# Altium integrated library TI Amplifiers and Linear Difference Amplifier.IntLib: 154 symbols (part 3 of 5)
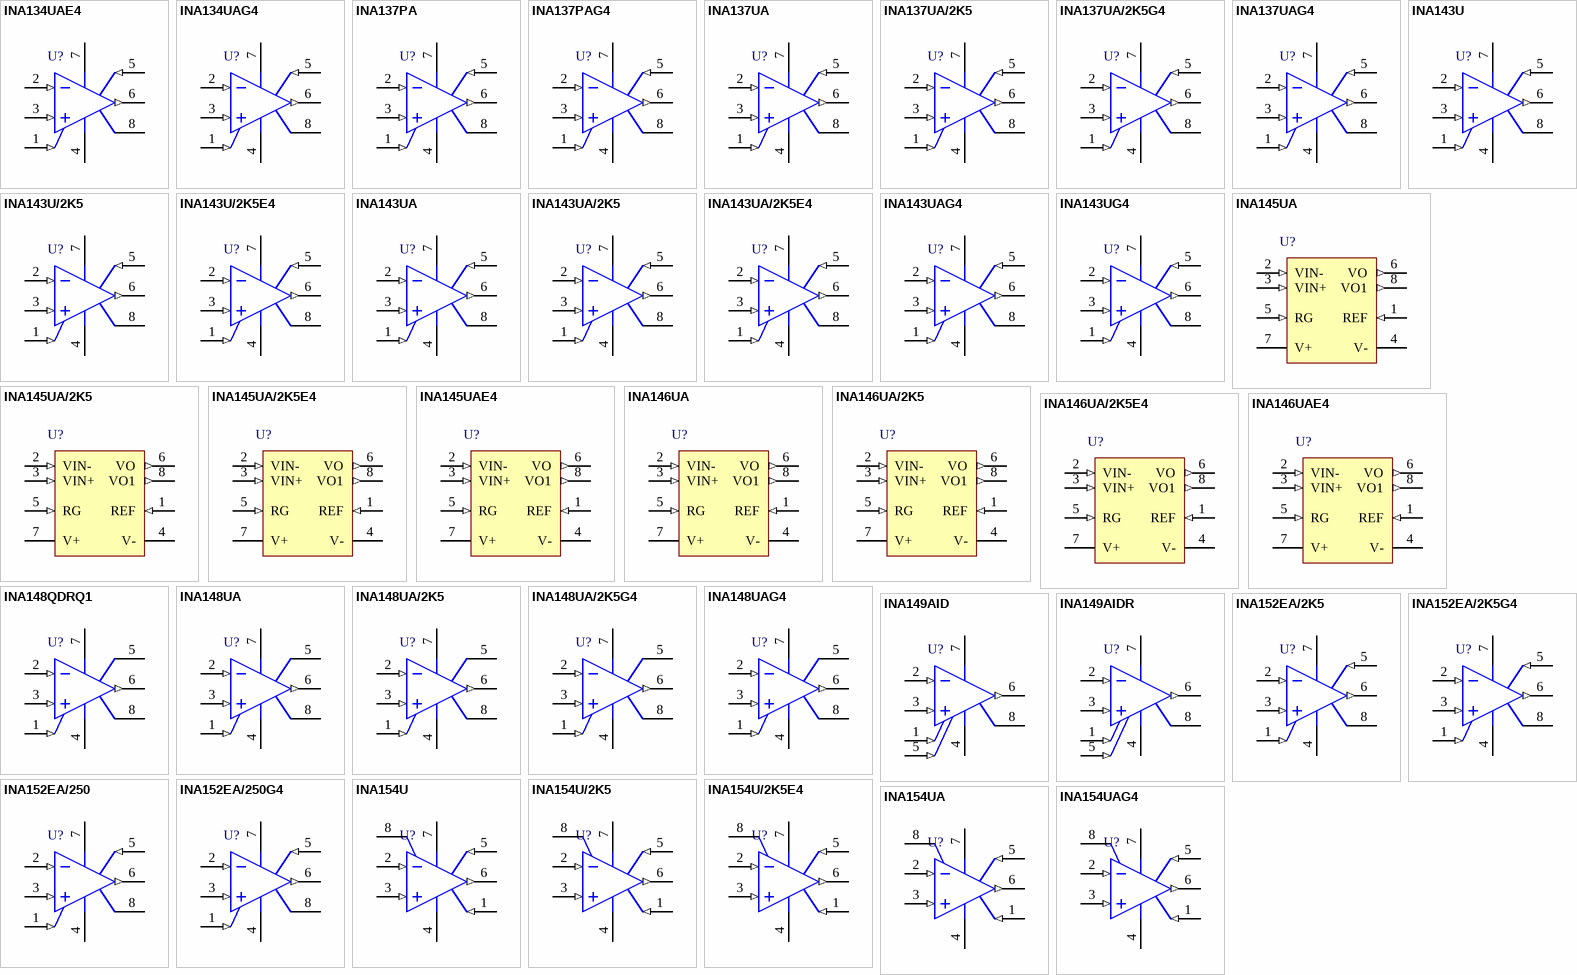
[diagram p7: symbols INA134UAE4 to INA154UAG4]

## INA148UA/2K5G4
designator U?
+/- 200 V Common-Mode Voltage Difference Amplifier, -40 to 85 degC, 8-pin SOIC (D8), Green (RoHS & no Sb/Br); Manufacturer: Texas Instruments; PartNumber: INA148UA/2K5G4; CMRR(Min)(dB): 70; Gain(V/V): 1; Input Offset (+/-)(Max)(uV): 5000; Vs(Max)(V): 36; Vs(Min)(V): 2.7; DatasheetVersion: SBOS123; PackageVersion: 4040047-3/M, 06/2011; PackageReference: D8; PackageDescription: 8-Pin Plastic Small Outline, Body 4.9 x 3.9 mm, Pitch 1.27 mm; Supplier 1: Digi-Key; Supplier Part Number 1: INA148UA/2K5G4-ND; Supplier 2: Newark; Supplier Part Number 2: 81K2079; Supplier 3: Mouser; Supplier Part Number 3: 595-INA148UA/2K5G4; Eco-Plan: Green (RoHS & no Sb/Br); Number of Channels: 1; Slew Rate(Typ)(V/us): 1; SubFamily: Difference Amplifier; Mounting Technology: Surface Mount; Code_JEDEC: MS-012; ComponentLink1Description: Manufacturer URL; ComponentLink1URL: http://www.ti.com/; ComponentLink2Description: Datasheet; ComponentLink2URL: http://www.ti.com/general/docs/lit/getliterature.tsp?genericPartNumber=INA148&fileType=pdf; ComponentLink3Description: Package Specification; ComponentLink3URL: http://www.ti.com/litv/pdf/msoi002j
footprint TI-D8_N (SOIC, 8-Leads, Body 5x4mm, Pitch 1.27mm, IPC Medium Density)
footprint TI-D8_L (SOIC, 8-Leads, Body 5x4mm, Pitch 1.27mm, IPC High Density)
footprint TI-D8_M (SOIC, 8-Leads, Body 5x4mm, Pitch 1.27mm, IPC Low Density)
pins: 1 REF (in), 2 IN- (in), 3 IN+ (in), 4 V- (power), 5 NC, 6 OUT (out), 7 V+ (power), 8 NC

## INA148UAG4
designator U?
+/- 200 V Common-Mode Voltage Difference Amplifier, -40 to 85 degC, 8-pin SOIC (D8), Green (RoHS & no Sb/Br); Manufacturer: Texas Instruments; PartNumber: INA148UAG4; CMRR(Min)(dB): 70; Gain(V/V): 1; Input Offset (+/-)(Max)(uV): 5000; Vs(Max)(V): 36; Vs(Min)(V): 2.7; DatasheetVersion: SBOS123; PackageVersion: 4040047-3/M, 06/2011; PackageReference: D8; PackageDescription: 8-Pin Plastic Small Outline, Body 4.9 x 3.9 mm, Pitch 1.27 mm; Supplier 1: Digi-Key; Supplier Part Number 1: INA148UAG4-ND; Supplier 2: Farnell; Supplier Part Number 2: 1206902; Supplier 3: Newark; Supplier Part Number 3: 97K1927; Supplier 4: Newark; Supplier Part Number 4: 81K2080; Supplier 5: Mouser; Supplier Part Number 5: 595-INA148UAG4; Eco-Plan: Green (RoHS & no Sb/Br); Number of Channels: 1; Slew Rate(Typ)(V/us): 1; SubFamily: Difference Amplifier; Mounting Technology: Surface Mount; Code_JEDEC: MS-012; ComponentLink1Description: Manufacturer URL; ComponentLink1URL: http://www.ti.com/; ComponentLink2Description: Datasheet; ComponentLink2URL: http://www.ti.com/general/docs/lit/getliterature.tsp?genericPartNumber=INA148&fileType=pdf; ComponentLink3Description: Package Specification; ComponentLink3URL: http://www.ti.com/litv/pdf/msoi002j
footprint TI-D8_N (SOIC, 8-Leads, Body 5x4mm, Pitch 1.27mm, IPC Medium Density)
footprint TI-D8_L (SOIC, 8-Leads, Body 5x4mm, Pitch 1.27mm, IPC High Density)
footprint TI-D8_M (SOIC, 8-Leads, Body 5x4mm, Pitch 1.27mm, IPC Low Density)
pins: 1 REF (in), 2 IN- (in), 3 IN+ (in), 4 V- (power), 5 NC, 6 OUT (out), 7 V+ (power), 8 NC

## INA149AID
designator U?
High Common Mode Voltage Difference Amplifier, -40 to 125 degC, 8-pin SOIC (D8), Green (RoHS & no Sb/Br); Manufacturer: Texas Instruments; PartNumber: INA149AID; CMRR(Min)(dB): 90; Gain(V/V): 1; Input Offset (+/-)(Max)(uV): 1100; Slew Rate(Typ)(V/us): 5; Vs(Max)(V): 36; Vs(Min)(V): 4; DatasheetVersion: SBOS579B; PackageVersion: 4040047-3/M, 06/2011; PackageReference: D8; PackageDescription: 8-Pin Plastic Small Outline, Body 4.9 x 3.9 mm, Pitch 1.27 mm; Supplier 1: Digi-Key; Supplier Part Number 1: 296-33286-5-ND; Supplier 2: Farnell; Supplier Part Number 2: 2082428; Supplier 3: Newark; Supplier Part Number 3: 76T6054; Supplier 4: Mouser; Supplier Part Number 4: 595-INA149AID; Eco-Plan: Green (RoHS & no Sb/Br); Number of Channels: 1; SubFamily: Difference Amplifier; Mounting Technology: Surface Mount; Code_JEDEC: MS-012; ComponentLink1Description: Manufacturer URL; ComponentLink1URL: http://www.ti.com/; ComponentLink2Description: Datasheet; ComponentLink2URL: http://www.ti.com/general/docs/lit/getliterature.tsp?genericPartNumber=INA149&fileType=pdf; ComponentLink3Description: Package Specification; ComponentLink3URL: http://www.ti.com/litv/pdf/msoi002j
footprint TI-D8_N (SOIC, 8-Leads, Body 5x4mm, Pitch 1.27mm, IPC Medium Density)
footprint TI-D8_L (SOIC, 8-Leads, Body 5x4mm, Pitch 1.27mm, IPC High Density)
footprint TI-D8_M (SOIC, 8-Leads, Body 5x4mm, Pitch 1.27mm, IPC Low Density)
pins: 1 REFB (in) "Reference input", 2 IN- (in) "Inverting input", 3 IN+ (in) "Noninverting input", 4 V- (power) "Negative power supply", 5 REFA (in) "Reference input", 6 VOUT (out) "Output", 7 V+ (power) "Positive power supply", 8 NC "No internal connection"

## INA149AIDR
designator U?
High Common Mode Voltage Difference Amplifier, -40 to 125 degC, 8-pin SOIC (D8), Green (RoHS & no Sb/Br); Manufacturer: Texas Instruments; PartNumber: INA149AIDR; CMRR(Min)(dB): 90; Gain(V/V): 1; Input Offset (+/-)(Max)(uV): 1100; Slew Rate(Typ)(V/us): 5; Vs(Max)(V): 36; Vs(Min)(V): 4; DatasheetVersion: SBOS579B; PackageVersion: 4040047-3/M, 06/2011; PackageReference: D8; PackageDescription: 8-Pin Plastic Small Outline, Body 4.9 x 3.9 mm, Pitch 1.27 mm; Supplier 1: Digi-Key; Supplier Part Number 1: 296-30028-2-ND; Supplier 2: Digi-Key; Supplier Part Number 2: 296-30028-1-ND; Supplier 3: Digi-Key; Supplier Part Number 3: 296-30028-6-ND; Supplier 4: Newark; Supplier Part Number 4: 76T6055; Supplier 5: Mouser; Supplier Part Number 5: 595-INA149AIDR; Eco-Plan: Green (RoHS & no Sb/Br); Number of Channels: 1; SubFamily: Difference Amplifier; Mounting Technology: Surface Mount; Code_JEDEC: MS-012; ComponentLink1Description: Manufacturer URL; ComponentLink1URL: http://www.ti.com/; ComponentLink2Description: Datasheet; ComponentLink2URL: http://www.ti.com/general/docs/lit/getliterature.tsp?genericPartNumber=INA149&fileType=pdf; ComponentLink3Description: Package Specification; ComponentLink3URL: http://www.ti.com/litv/pdf/msoi002j
footprint TI-D8_N (SOIC, 8-Leads, Body 5x4mm, Pitch 1.27mm, IPC Medium Density)
footprint TI-D8_L (SOIC, 8-Leads, Body 5x4mm, Pitch 1.27mm, IPC High Density)
footprint TI-D8_M (SOIC, 8-Leads, Body 5x4mm, Pitch 1.27mm, IPC Low Density)
pins: 1 REFB (in) "Reference input", 2 IN- (in) "Inverting input", 3 IN+ (in) "Noninverting input", 4 V- (power) "Negative power supply", 5 REFA (in) "Reference input", 6 VOUT (out) "Output", 7 V+ (power) "Positive power supply", 8 NC "No internal connection"

## INA152EA/2K5
designator U?
Single-Supply Difference Amplifier, -40 to 85 degC, 8-pin SOP (DGK8), Green (RoHS & no Sb/Br); Manufacturer: Texas Instruments; PartNumber: INA152EA/2K5; CMRR(Min)(dB): 80; Gain(V/V): 1; Input Offset (+/-)(Max)(uV): 1500; Slew Rate(Typ)(V/us): 0.4; Vs(Max)(V): 20; Vs(Min)(V): 2.7; DatasheetVersion: SBOS184; PackageVersion: 4073329/E, 05/2006; PackageReference: DGK8; PackageDescription: 8-Pin Thin Small Outline, Body 3 x 3 mm, Pitch 0.65 mm; Supplier 1: Digi-Key; Supplier Part Number 1: INA152EA/2K5TR-ND; Supplier 2: Digi-Key; Supplier Part Number 2: INA152EA/2K5CT-ND; Supplier 3: Digi-Key; Supplier Part Number 3: INA152EA/2K5DKR-ND; Supplier 4: Newark; Supplier Part Number 4: 74C9809; Supplier 5: Mouser; Supplier Part Number 5: 595-INA152EA/2K5; Eco-Plan: Green (RoHS & no Sb/Br); SubFamily: Difference Amplifier; Mounting Technology: Surface Mount; Code_JEDEC: MO-187; ComponentLink1Description: Manufacturer URL; ComponentLink1URL: http://www.ti.com/; ComponentLink2Description: Datasheet; ComponentLink2URL: http://www.ti.com/general/docs/lit/getliterature.tsp?genericPartNumber=INA152&fileType=pdf; ComponentLink3Description: Package Specification; ComponentLink3URL: http://www.ti.com/litv/pdf/mpds028d
footprint TI-DGK8_N (SOP, 8-Leads, Body 3.1x3.1mm, Pitch 0.65mm, IPC Medium Density)
footprint TI-DGK8_L (SOP, 8-Leads, Body 3.1x3.1mm, Pitch 0.65mm, IPC High Density)
footprint TI-DGK8_M (SOP, 8-Leads, Body 3.1x3.1mm, Pitch 0.65mm, IPC Low Density)
pins: 1 REF (in), 2 VIN- (in), 3 VIN+ (in), 4 V- (power), 5 SENSE (in), 6 VO (out), 7 V+ (power), 8 NC

## INA152EA/2K5G4
designator U?
Single-Supply Difference Amplifier, -40 to 85 degC, 8-pin SOP (DGK8), Green (RoHS & no Sb/Br); Manufacturer: Texas Instruments; PartNumber: INA152EA/2K5G4; CMRR(Min)(dB): 80; Gain(V/V): 1; Input Offset (+/-)(Max)(uV): 1500; Slew Rate(Typ)(V/us): 0.4; Vs(Max)(V): 20; Vs(Min)(V): 2.7; DatasheetVersion: SBOS184; PackageVersion: 4073329/E, 05/2006; PackageReference: DGK8; PackageDescription: 8-Pin Thin Small Outline, Body 3 x 3 mm, Pitch 0.65 mm; Supplier 1: Digi-Key; Supplier Part Number 1: INA152EA/2K5G4-ND; Supplier 2: Mouser; Supplier Part Number 2: 595-INA152EA/2K5G4; Eco-Plan: Green (RoHS & no Sb/Br); SubFamily: Difference Amplifier; Mounting Technology: Surface Mount; Code_JEDEC: MO-187; ComponentLink1Description: Manufacturer URL; ComponentLink1URL: http://www.ti.com/; ComponentLink2Description: Datasheet; ComponentLink2URL: http://www.ti.com/general/docs/lit/getliterature.tsp?genericPartNumber=INA152&fileType=pdf; ComponentLink3Description: Package Specification; ComponentLink3URL: http://www.ti.com/litv/pdf/mpds028d
footprint TI-DGK8_N (SOP, 8-Leads, Body 3.1x3.1mm, Pitch 0.65mm, IPC Medium Density)
footprint TI-DGK8_L (SOP, 8-Leads, Body 3.1x3.1mm, Pitch 0.65mm, IPC High Density)
footprint TI-DGK8_M (SOP, 8-Leads, Body 3.1x3.1mm, Pitch 0.65mm, IPC Low Density)
pins: 1 REF (in), 2 VIN- (in), 3 VIN+ (in), 4 V- (power), 5 SENSE (in), 6 VO (out), 7 V+ (power), 8 NC

## INA152EA/250
designator U?
Single-Supply Difference Amplifier, -40 to 85 degC, 8-pin SOP (DGK8), Green (RoHS & no Sb/Br); Manufacturer: Texas Instruments; PartNumber: INA152EA/250; CMRR(Min)(dB): 80; Gain(V/V): 1; Input Offset (+/-)(Max)(uV): 1500; Slew Rate(Typ)(V/us): 0.4; Vs(Max)(V): 20; Vs(Min)(V): 2.7; DatasheetVersion: SBOS184; PackageVersion: 4073329/E, 05/2006; PackageReference: DGK8; PackageDescription: 8-Pin Thin Small Outline, Body 3 x 3 mm, Pitch 0.65 mm; Supplier 1: Digi-Key; Supplier Part Number 1: 296-27986-2-ND; Supplier 2: Digi-Key; Supplier Part Number 2: 296-27986-1-ND; Supplier 3: Digi-Key; Supplier Part Number 3: 296-27986-6-ND; Supplier 4: Farnell; Supplier Part Number 4: 1206903; Supplier 5: Farnell; Supplier Part Number 5: 1206903RL; Supplier 6: Newark; Supplier Part Number 6: 97K1928; Supplier 7: Mouser; Supplier Part Number 7: 595-INA152EA/250; Eco-Plan: Green (RoHS & no Sb/Br); SubFamily: Difference Amplifier; Mounting Technology: Surface Mount; Code_JEDEC: MO-187; ComponentLink1Description: Manufacturer URL; ComponentLink1URL: http://www.ti.com/; ComponentLink2Description: Datasheet; ComponentLink2URL: http://www.ti.com/general/docs/lit/getliterature.tsp?genericPartNumber=INA152&fileType=pdf; ComponentLink3Description: Package Specification; ComponentLink3URL: http://www.ti.com/litv/pdf/mpds028d
footprint TI-DGK8_N (SOP, 8-Leads, Body 3.1x3.1mm, Pitch 0.65mm, IPC Medium Density)
footprint TI-DGK8_L (SOP, 8-Leads, Body 3.1x3.1mm, Pitch 0.65mm, IPC High Density)
footprint TI-DGK8_M (SOP, 8-Leads, Body 3.1x3.1mm, Pitch 0.65mm, IPC Low Density)
pins: 1 REF (in), 2 VIN- (in), 3 VIN+ (in), 4 V- (power), 5 SENSE (in), 6 VO (out), 7 V+ (power), 8 NC

## INA152EA/250G4
designator U?
Single-Supply Difference Amplifier, -40 to 85 degC, 8-pin SOP (DGK8), Green (RoHS & no Sb/Br); Manufacturer: Texas Instruments; PartNumber: INA152EA/250G4; CMRR(Min)(dB): 80; Gain(V/V): 1; Input Offset (+/-)(Max)(uV): 1500; Slew Rate(Typ)(V/us): 0.4; Vs(Max)(V): 20; Vs(Min)(V): 2.7; DatasheetVersion: SBOS184; PackageVersion: 4073329/E, 05/2006; PackageReference: DGK8; PackageDescription: 8-Pin Thin Small Outline, Body 3 x 3 mm, Pitch 0.65 mm; Supplier 1: Digi-Key; Supplier Part Number 1: INA152EA/250G4-ND; Supplier 2: Newark; Supplier Part Number 2: 28M6087; Supplier 3: Mouser; Supplier Part Number 3: 595-INA152EA/250G4; Eco-Plan: Green (RoHS & no Sb/Br); SubFamily: Difference Amplifier; Mounting Technology: Surface Mount; Code_JEDEC: MO-187; ComponentLink1Description: Manufacturer URL; ComponentLink1URL: http://www.ti.com/; ComponentLink2Description: Datasheet; ComponentLink2URL: http://www.ti.com/general/docs/lit/getliterature.tsp?genericPartNumber=INA152&fileType=pdf; ComponentLink3Description: Package Specification; ComponentLink3URL: http://www.ti.com/litv/pdf/mpds028d
footprint TI-DGK8_N (SOP, 8-Leads, Body 3.1x3.1mm, Pitch 0.65mm, IPC Medium Density)
footprint TI-DGK8_L (SOP, 8-Leads, Body 3.1x3.1mm, Pitch 0.65mm, IPC High Density)
footprint TI-DGK8_M (SOP, 8-Leads, Body 3.1x3.1mm, Pitch 0.65mm, IPC Low Density)
pins: 1 REF (in), 2 VIN- (in), 3 VIN+ (in), 4 V- (power), 5 SENSE (in), 6 VO (out), 7 V+ (power), 8 NC

## INA154U
designator U?
High-Speed, Precision Difference Amplifier (G = 1), -40 to 85 degC, 8-pin SOIC (D8), Green (RoHS & no Sb/Br); Manufacturer: Texas Instruments; PartNumber: INA154U; CMRR(Min)(dB): 80; Gain(V/V): 1; Input Offset (+/-)(Max)(uV): 750; Slew Rate(Typ)(V/us): 14; Vs(Max)(V): 36; Vs(Min)(V): 8; DatasheetVersion: SBOS104; PackageVersion: 4040047-3/M, 06/2011; PackageReference: D8; PackageDescription: 8-Pin Plastic Small Outline, Body 4.9 x 3.9 mm, Pitch 1.27 mm; Supplier 1: Digi-Key; Supplier Part Number 1: INA154U-ND; Supplier 2: Farnell; Supplier Part Number 2: 2323251; Supplier 3: Newark; Supplier Part Number 3: 35C1741; Supplier 4: Mouser; Supplier Part Number 4: 595-INA154U; Eco-Plan: Green (RoHS & no Sb/Br); Number of Channels: 1; SubFamily: Difference Amplifier; Mounting Technology: Surface Mount; Code_JEDEC: MS-012; ComponentLink1Description: Manufacturer URL; ComponentLink1URL: http://www.ti.com/; ComponentLink2Description: Datasheet; ComponentLink2URL: http://www.ti.com/general/docs/lit/getliterature.tsp?genericPartNumber=INA154&fileType=pdf; ComponentLink3Description: Package Specification; ComponentLink3URL: http://www.ti.com/litv/pdf/msoi002j
footprint TI-D8_N (SOIC, 8-Leads, Body 5x4mm, Pitch 1.27mm, IPC Medium Density)
footprint TI-D8_L (SOIC, 8-Leads, Body 5x4mm, Pitch 1.27mm, IPC High Density)
footprint TI-D8_M (SOIC, 8-Leads, Body 5x4mm, Pitch 1.27mm, IPC Low Density)
pins: 1 REF (in), 2 IN- (in), 3 IN+ (in), 4 V- (power), 5 SENSE (in), 6 OUT (out), 7 V+ (power), 8 NIC

## INA154U/2K5
designator U?
High-Speed, Precision Difference Amplifier (G = 1), -40 to 85 degC, 8-pin SOIC (D8), Green (RoHS & no Sb/Br); Manufacturer: Texas Instruments; PartNumber: INA154U/2K5; CMRR(Min)(dB): 80; Gain(V/V): 1; Input Offset (+/-)(Max)(uV): 750; Slew Rate(Typ)(V/us): 14; Vs(Max)(V): 36; Vs(Min)(V): 8; DatasheetVersion: SBOS104; PackageVersion: 4040047-3/M, 06/2011; PackageReference: D8; PackageDescription: 8-Pin Plastic Small Outline, Body 4.9 x 3.9 mm, Pitch 1.27 mm; Supplier 1: Digi-Key; Supplier Part Number 1: 296-31644-2-ND; Supplier 2: Digi-Key; Supplier Part Number 2: 296-31644-1-ND; Supplier 3: Digi-Key; Supplier Part Number 3: 296-31644-6-ND; Supplier 4: Newark; Supplier Part Number 4: 74C9811; Supplier 5: Mouser; Supplier Part Number 5: 595-INA154U/2K5; Eco-Plan: Green (RoHS & no Sb/Br); Number of Channels: 1; SubFamily: Difference Amplifier; Mounting Technology: Surface Mount; Code_JEDEC: MS-012; ComponentLink1Description: Manufacturer URL; ComponentLink1URL: http://www.ti.com/; ComponentLink2Description: Datasheet; ComponentLink2URL: http://www.ti.com/general/docs/lit/getliterature.tsp?genericPartNumber=INA154&fileType=pdf; ComponentLink3Description: Package Specification; ComponentLink3URL: http://www.ti.com/litv/pdf/msoi002j
footprint TI-D8_N (SOIC, 8-Leads, Body 5x4mm, Pitch 1.27mm, IPC Medium Density)
footprint TI-D8_L (SOIC, 8-Leads, Body 5x4mm, Pitch 1.27mm, IPC High Density)
footprint TI-D8_M (SOIC, 8-Leads, Body 5x4mm, Pitch 1.27mm, IPC Low Density)
pins: 1 REF (in), 2 IN- (in), 3 IN+ (in), 4 V- (power), 5 SENSE (in), 6 OUT (out), 7 V+ (power), 8 NIC

## INA154U/2K5E4
designator U?
High-Speed, Precision Difference Amplifier (G = 1), -40 to 85 degC, 8-pin SOIC (D8), Green (RoHS & no Sb/Br); Manufacturer: Texas Instruments; PartNumber: INA154U/2K5E4; CMRR(Min)(dB): 80; Gain(V/V): 1; Input Offset (+/-)(Max)(uV): 750; Slew Rate(Typ)(V/us): 14; Vs(Max)(V): 36; Vs(Min)(V): 8; DatasheetVersion: SBOS104; PackageVersion: 4040047-3/M, 06/2011; PackageReference: D8; PackageDescription: 8-Pin Plastic Small Outline, Body 4.9 x 3.9 mm, Pitch 1.27 mm; Supplier 1: Digi-Key; Supplier Part Number 1: INA154U/2K5E4-ND; Supplier 2: Mouser; Supplier Part Number 2: 595-INA154U/2K5E4; Eco-Plan: Green (RoHS & no Sb/Br); Number of Channels: 1; SubFamily: Difference Amplifier; Mounting Technology: Surface Mount; Code_JEDEC: MS-012; ComponentLink1Description: Manufacturer URL; ComponentLink1URL: http://www.ti.com/; ComponentLink2Description: Datasheet; ComponentLink2URL: http://www.ti.com/general/docs/lit/getliterature.tsp?genericPartNumber=INA154&fileType=pdf; ComponentLink3Description: Package Specification; ComponentLink3URL: http://www.ti.com/litv/pdf/msoi002j
footprint TI-D8_N (SOIC, 8-Leads, Body 5x4mm, Pitch 1.27mm, IPC Medium Density)
footprint TI-D8_L (SOIC, 8-Leads, Body 5x4mm, Pitch 1.27mm, IPC High Density)
footprint TI-D8_M (SOIC, 8-Leads, Body 5x4mm, Pitch 1.27mm, IPC Low Density)
pins: 1 REF (in), 2 IN- (in), 3 IN+ (in), 4 V- (power), 5 SENSE (in), 6 OUT (out), 7 V+ (power), 8 NIC

## INA154UA
designator U?
High-Speed, Precision Difference Amplifier (G = 1), -40 to 85 degC, 8-pin SOIC (D8), Green (RoHS & no Sb/Br); Manufacturer: Texas Instruments; PartNumber: INA154UA; CMRR(Min)(dB): 74; Gain(V/V): 1; Input Offset (+/-)(Max)(uV): 1500; Slew Rate(Typ)(V/us): 14; Vs(Max)(V): 36; Vs(Min)(V): 8; DatasheetVersion: SBOS104; PackageVersion: 4040047-3/M, 06/2011; PackageReference: D8; PackageDescription: 8-Pin Plastic Small Outline, Body 4.9 x 3.9 mm, Pitch 1.27 mm; Supplier 1: Digi-Key; Supplier Part Number 1: INA154UA-ND; Supplier 2: Farnell; Supplier Part Number 2: 1459431; Supplier 3: Newark; Supplier Part Number 3: 61M6793; Supplier 4: Mouser; Supplier Part Number 4: 595-INA154UA; Eco-Plan: Green (RoHS & no Sb/Br); Number of Channels: 1; SubFamily: Difference Amplifier; Mounting Technology: Surface Mount; Code_JEDEC: MS-012; ComponentLink1Description: Manufacturer URL; ComponentLink1URL: http://www.ti.com/; ComponentLink2Description: Datasheet; ComponentLink2URL: http://www.ti.com/general/docs/lit/getliterature.tsp?genericPartNumber=INA154&fileType=pdf; ComponentLink3Description: Package Specification; ComponentLink3URL: http://www.ti.com/litv/pdf/msoi002j
footprint TI-D8_N (SOIC, 8-Leads, Body 5x4mm, Pitch 1.27mm, IPC Medium Density)
footprint TI-D8_L (SOIC, 8-Leads, Body 5x4mm, Pitch 1.27mm, IPC High Density)
footprint TI-D8_M (SOIC, 8-Leads, Body 5x4mm, Pitch 1.27mm, IPC Low Density)
pins: 1 REF (in), 2 IN- (in), 3 IN+ (in), 4 V- (power), 5 SENSE (in), 6 OUT (out), 7 V+ (power), 8 NIC

## INA154UAG4
designator U?
High-Speed, Precision Difference Amplifier (G = 1), -40 to 85 degC, 8-pin SOIC (D8), Green (RoHS & no Sb/Br); Manufacturer: Texas Instruments; PartNumber: INA154UAG4; CMRR(Min)(dB): 74; Gain(V/V): 1; Input Offset (+/-)(Max)(uV): 1500; Slew Rate(Typ)(V/us): 14; Vs(Max)(V): 36; Vs(Min)(V): 8; DatasheetVersion: SBOS104; PackageVersion: 4040047-3/M, 06/2011; PackageReference: D8; PackageDescription: 8-Pin Plastic Small Outline, Body 4.9 x 3.9 mm, Pitch 1.27 mm; Supplier 1: Digi-Key; Supplier Part Number 1: INA154UAG4-ND; Supplier 2: Mouser; Supplier Part Number 2: 595-INA154UAG4; Eco-Plan: Green (RoHS & no Sb/Br); Number of Channels: 1; SubFamily: Difference Amplifier; Mounting Technology: Surface Mount; Code_JEDEC: MS-012; ComponentLink1Description: Manufacturer URL; ComponentLink1URL: http://www.ti.com/; ComponentLink2Description: Datasheet; ComponentLink2URL: http://www.ti.com/general/docs/lit/getliterature.tsp?genericPartNumber=INA154&fileType=pdf; ComponentLink3Description: Package Specification; ComponentLink3URL: http://www.ti.com/litv/pdf/msoi002j
footprint TI-D8_N (SOIC, 8-Leads, Body 5x4mm, Pitch 1.27mm, IPC Medium Density)
footprint TI-D8_L (SOIC, 8-Leads, Body 5x4mm, Pitch 1.27mm, IPC High Density)
footprint TI-D8_M (SOIC, 8-Leads, Body 5x4mm, Pitch 1.27mm, IPC Low Density)
pins: 1 REF (in), 2 IN- (in), 3 IN+ (in), 4 V- (power), 5 SENSE (in), 6 OUT (out), 7 V+ (power), 8 NIC

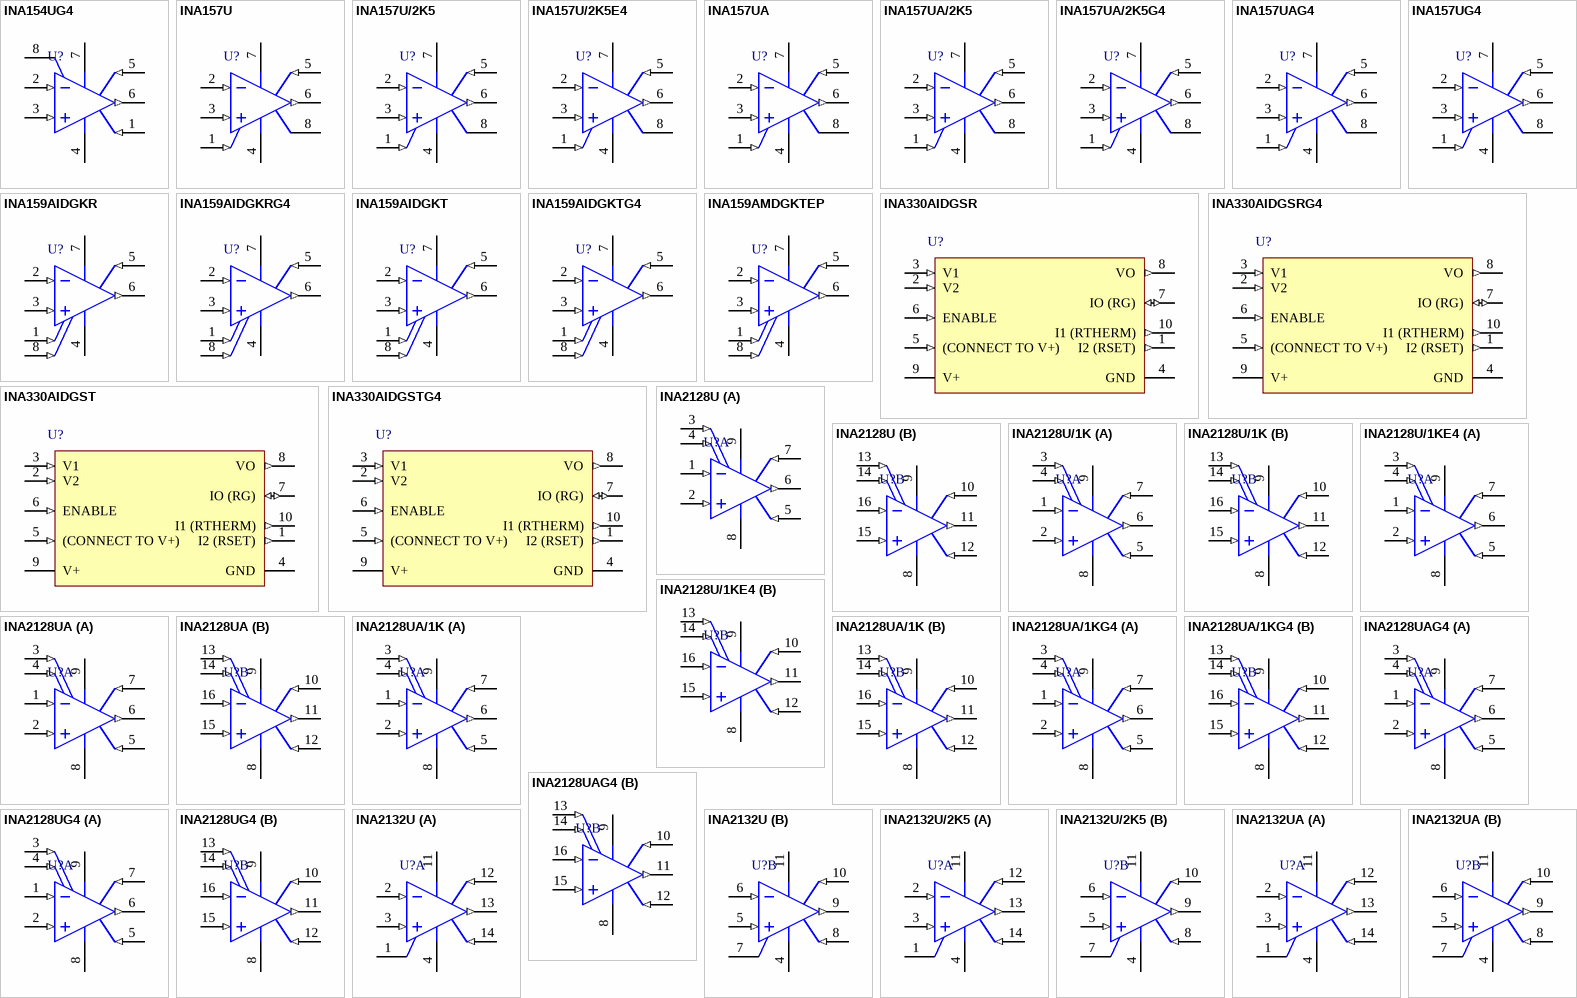
[diagram p2: symbols INA154UG4 to INA2132UA]

## INA154UG4
designator U?
High-Speed, Precision Difference Amplifier (G = 1), -40 to 85 degC, 8-pin SOIC (D8), Green (RoHS & no Sb/Br); Manufacturer: Texas Instruments; PartNumber: INA154UG4; CMRR(Min)(dB): 80; Gain(V/V): 1; Input Offset (+/-)(Max)(uV): 750; Slew Rate(Typ)(V/us): 14; Vs(Max)(V): 36; Vs(Min)(V): 8; DatasheetVersion: SBOS104; PackageVersion: 4040047-3/M, 06/2011; PackageReference: D8; PackageDescription: 8-Pin Plastic Small Outline, Body 4.9 x 3.9 mm, Pitch 1.27 mm; Supplier 1: Digi-Key; Supplier Part Number 1: INA154UG4-ND; Supplier 2: Mouser; Supplier Part Number 2: 595-INA154UG4; Eco-Plan: Green (RoHS & no Sb/Br); Number of Channels: 1; SubFamily: Difference Amplifier; Mounting Technology: Surface Mount; Code_JEDEC: MS-012; ComponentLink1Description: Manufacturer URL; ComponentLink1URL: http://www.ti.com/; ComponentLink2Description: Datasheet; ComponentLink2URL: http://www.ti.com/general/docs/lit/getliterature.tsp?genericPartNumber=INA154&fileType=pdf; ComponentLink3Description: Package Specification; ComponentLink3URL: http://www.ti.com/litv/pdf/msoi002j
footprint TI-D8_N (SOIC, 8-Leads, Body 5x4mm, Pitch 1.27mm, IPC Medium Density)
footprint TI-D8_L (SOIC, 8-Leads, Body 5x4mm, Pitch 1.27mm, IPC High Density)
footprint TI-D8_M (SOIC, 8-Leads, Body 5x4mm, Pitch 1.27mm, IPC Low Density)
pins: 1 REF (in), 2 IN- (in), 3 IN+ (in), 4 V- (power), 5 SENSE (in), 6 OUT (out), 7 V+ (power), 8 NIC

## INA157U
designator U?
High-Speed, Precision Difference Amplifier, -40 to 85 degC, 8-pin SOIC (D8), Green (RoHS & no Sb/Br); Manufacturer: Texas Instruments; PartNumber: INA157U; CMRR(Min)(dB): 86; Gain(V/V): 0.5, 2; Input Offset (+/-)(Max)(uV): 500; Number of Channels: 1; Slew Rate(Typ)(V/us): 14; Vs(Max)(V): 36; Vs(Min)(V): 8; DatasheetVersion: SBOS105; PackageVersion: 4040047-3/M, 06/2011; PackageReference: D8; PackageDescription: 8-Pin Plastic Small Outline, Body 4.9 x 3.9 mm, Pitch 1.27 mm; Supplier 1: Digi-Key; Supplier Part Number 1: INA157U-ND; Supplier 2: Newark; Supplier Part Number 2: 35C1742; Supplier 3: Mouser; Supplier Part Number 3: 595-INA157U; Eco-Plan: Green (RoHS & no Sb/Br); SubFamily: Difference Amplifier; Mounting Technology: Surface Mount; Code_JEDEC: MS-012; ComponentLink1Description: Manufacturer URL; ComponentLink1URL: http://www.ti.com/; ComponentLink2Description: Datasheet; ComponentLink2URL: http://www.ti.com/general/docs/lit/getliterature.tsp?genericPartNumber=INA157&fileType=pdf; ComponentLink3Description: Package Specification; ComponentLink3URL: http://www.ti.com/litv/pdf/msoi002j
footprint TI-D8_N (SOIC, 8-Leads, Body 5x4mm, Pitch 1.27mm, IPC Medium Density)
footprint TI-D8_L (SOIC, 8-Leads, Body 5x4mm, Pitch 1.27mm, IPC High Density)
footprint TI-D8_M (SOIC, 8-Leads, Body 5x4mm, Pitch 1.27mm, IPC Low Density)
pins: 1 REF (in), 2 IN- (in), 3 IN+ (in), 4 V- (power), 5 SENSE (in), 6 OUT (out), 7 V+ (power), 8 NC

## INA157U/2K5
designator U?
High-Speed, Precision Difference Amplifier, -40 to 85 degC, 8-pin SOIC (D8), Green (RoHS & no Sb/Br); Manufacturer: Texas Instruments; PartNumber: INA157U/2K5; CMRR(Min)(dB): 86; Gain(V/V): 0.5; Input Offset (+/-)(Max)(uV): 500; Number of Channels: 1; Slew Rate(Typ)(V/us): 14; Vs(Max)(V): 36; Vs(Min)(V): 8; DatasheetVersion: SBOS105; PackageVersion: 4040047-3/M, 06/2011; PackageReference: D8; PackageDescription: 8-Pin Plastic Small Outline, Body 4.9 x 3.9 mm, Pitch 1.27 mm; Supplier 1: Digi-Key; Supplier Part Number 1: INA157U/2K5-ND; Supplier 2: Newark; Supplier Part Number 2: 74C9823; Supplier 3: Mouser; Supplier Part Number 3: 595-INA157U/2K5; Eco-Plan: Green (RoHS & no Sb/Br); SubFamily: Difference Amplifier; Mounting Technology: Surface Mount; Code_JEDEC: MS-012; ComponentLink1Description: Manufacturer URL; ComponentLink1URL: http://www.ti.com/; ComponentLink2Description: Datasheet; ComponentLink2URL: http://www.ti.com/general/docs/lit/getliterature.tsp?genericPartNumber=INA157&fileType=pdf; ComponentLink3Description: Package Specification; ComponentLink3URL: http://www.ti.com/litv/pdf/msoi002j
footprint TI-D8_N (SOIC, 8-Leads, Body 5x4mm, Pitch 1.27mm, IPC Medium Density)
footprint TI-D8_L (SOIC, 8-Leads, Body 5x4mm, Pitch 1.27mm, IPC High Density)
footprint TI-D8_M (SOIC, 8-Leads, Body 5x4mm, Pitch 1.27mm, IPC Low Density)
pins: 1 REF (in), 2 IN- (in), 3 IN+ (in), 4 V- (power), 5 SENSE (in), 6 OUT (out), 7 V+ (power), 8 NC

## INA157U/2K5E4
designator U?
High-Speed, Precision Difference Amplifier, -40 to 85 degC, 8-pin SOIC (D8), Green (RoHS & no Sb/Br); Manufacturer: Texas Instruments; PartNumber: INA157U/2K5E4; CMRR(Min)(dB): 86; Gain(V/V): 0.5; Input Offset (+/-)(Max)(uV): 500; Number of Channels: 1; Slew Rate(Typ)(V/us): 14; Vs(Max)(V): 36; Vs(Min)(V): 8; DatasheetVersion: SBOS105; PackageVersion: 4040047-3/M, 06/2011; PackageReference: D8; PackageDescription: 8-Pin Plastic Small Outline, Body 4.9 x 3.9 mm, Pitch 1.27 mm; Supplier 1: Digi-Key; Supplier Part Number 1: INA157U/2K5E4-ND; Supplier 2: Mouser; Supplier Part Number 2: 595-INA157U/2K5E4; Eco-Plan: Green (RoHS & no Sb/Br); SubFamily: Difference Amplifier; Mounting Technology: Surface Mount; Code_JEDEC: MS-012; ComponentLink1Description: Manufacturer URL; ComponentLink1URL: http://www.ti.com/; ComponentLink2Description: Datasheet; ComponentLink2URL: http://www.ti.com/general/docs/lit/getliterature.tsp?genericPartNumber=INA157&fileType=pdf; ComponentLink3Description: Package Specification; ComponentLink3URL: http://www.ti.com/litv/pdf/msoi002j
footprint TI-D8_N (SOIC, 8-Leads, Body 5x4mm, Pitch 1.27mm, IPC Medium Density)
footprint TI-D8_L (SOIC, 8-Leads, Body 5x4mm, Pitch 1.27mm, IPC High Density)
footprint TI-D8_M (SOIC, 8-Leads, Body 5x4mm, Pitch 1.27mm, IPC Low Density)
pins: 1 REF (in), 2 IN- (in), 3 IN+ (in), 4 V- (power), 5 SENSE (in), 6 OUT (out), 7 V+ (power), 8 NC

## INA157UA
designator U?
High-Speed, Precision Difference Amplifier, -40 to 85 degC, 8-pin SOIC (D8), Green (RoHS & no Sb/Br); Manufacturer: Texas Instruments; PartNumber: INA157UA; CMRR(Min)(dB): 80; Gain(V/V): 0.5; Input Offset (+/-)(Max)(uV): 1000; Number of Channels: 1; Slew Rate(Typ)(V/us): 14; Vs(Max)(V): 36; Vs(Min)(V): 8; DatasheetVersion: SBOS105; PackageVersion: 4040047-3/M, 06/2011; PackageReference: D8; PackageDescription: 8-Pin Plastic Small Outline, Body 4.9 x 3.9 mm, Pitch 1.27 mm; Supplier 1: Digi-Key; Supplier Part Number 1: INA157UA-ND; Supplier 2: Newark; Supplier Part Number 2: 35C1743; Supplier 3: Mouser; Supplier Part Number 3: 595-INA157UA; Eco-Plan: Green (RoHS & no Sb/Br); SubFamily: Difference Amplifier; Mounting Technology: Surface Mount; Code_JEDEC: MS-012; ComponentLink1Description: Manufacturer URL; ComponentLink1URL: http://www.ti.com/; ComponentLink2Description: Datasheet; ComponentLink2URL: http://www.ti.com/general/docs/lit/getliterature.tsp?genericPartNumber=INA157&fileType=pdf; ComponentLink3Description: Package Specification; ComponentLink3URL: http://www.ti.com/litv/pdf/msoi002j
footprint TI-D8_N (SOIC, 8-Leads, Body 5x4mm, Pitch 1.27mm, IPC Medium Density)
footprint TI-D8_L (SOIC, 8-Leads, Body 5x4mm, Pitch 1.27mm, IPC High Density)
footprint TI-D8_M (SOIC, 8-Leads, Body 5x4mm, Pitch 1.27mm, IPC Low Density)
pins: 1 REF (in), 2 IN- (in), 3 IN+ (in), 4 V- (power), 5 SENSE (in), 6 OUT (out), 7 V+ (power), 8 NC

## INA157UA/2K5
designator U?
High-Speed, Precision Difference Amplifier, -40 to 85 degC, 8-pin SOIC (D8), Green (RoHS & no Sb/Br); Manufacturer: Texas Instruments; PartNumber: INA157UA/2K5; CMRR(Min)(dB): 80; Gain(V/V): 0.5; Input Offset (+/-)(Max)(uV): 1000; Number of Channels: 1; Slew Rate(Typ)(V/us): 14; Vs(Max)(V): 36; Vs(Min)(V): 8; DatasheetVersion: SBOS105; PackageVersion: 4040047-3/M, 06/2011; PackageReference: D8; PackageDescription: 8-Pin Plastic Small Outline, Body 4.9 x 3.9 mm, Pitch 1.27 mm; Supplier 1: Digi-Key; Supplier Part Number 1: INA157UA/2K5-ND; Supplier 2: Mouser; Supplier Part Number 2: 595-INA157UA/2K5; Eco-Plan: Green (RoHS & no Sb/Br); SubFamily: Difference Amplifier; Mounting Technology: Surface Mount; Code_JEDEC: MS-012; ComponentLink1Description: Manufacturer URL; ComponentLink1URL: http://www.ti.com/; ComponentLink2Description: Datasheet; ComponentLink2URL: http://www.ti.com/general/docs/lit/getliterature.tsp?genericPartNumber=INA157&fileType=pdf; ComponentLink3Description: Package Specification; ComponentLink3URL: http://www.ti.com/litv/pdf/msoi002j
footprint TI-D8_N (SOIC, 8-Leads, Body 5x4mm, Pitch 1.27mm, IPC Medium Density)
footprint TI-D8_L (SOIC, 8-Leads, Body 5x4mm, Pitch 1.27mm, IPC High Density)
footprint TI-D8_M (SOIC, 8-Leads, Body 5x4mm, Pitch 1.27mm, IPC Low Density)
pins: 1 REF (in), 2 IN- (in), 3 IN+ (in), 4 V- (power), 5 SENSE (in), 6 OUT (out), 7 V+ (power), 8 NC

## INA157UA/2K5G4
designator U?
High-Speed, Precision Difference Amplifier, -40 to 85 degC, 8-pin SOIC (D8), Green (RoHS & no Sb/Br); Manufacturer: Texas Instruments; PartNumber: INA157UA/2K5G4; CMRR(Min)(dB): 80; Gain(V/V): 0.5; Input Offset (+/-)(Max)(uV): 1000; Number of Channels: 1; Slew Rate(Typ)(V/us): 14; Vs(Max)(V): 36; Vs(Min)(V): 8; DatasheetVersion: SBOS105; PackageVersion: 4040047-3/M, 06/2011; PackageReference: D8; PackageDescription: 8-Pin Plastic Small Outline, Body 4.9 x 3.9 mm, Pitch 1.27 mm; Supplier 1: Digi-Key; Supplier Part Number 1: INA157UA/2K5G4-ND; Supplier 2: Mouser; Supplier Part Number 2: 595-INA157UA/2K5G4; Eco-Plan: Green (RoHS & no Sb/Br); SubFamily: Difference Amplifier; Mounting Technology: Surface Mount; Code_JEDEC: MS-012; ComponentLink1Description: Manufacturer URL; ComponentLink1URL: http://www.ti.com/; ComponentLink2Description: Datasheet; ComponentLink2URL: http://www.ti.com/general/docs/lit/getliterature.tsp?genericPartNumber=INA157&fileType=pdf; ComponentLink3Description: Package Specification; ComponentLink3URL: http://www.ti.com/litv/pdf/msoi002j
footprint TI-D8_N (SOIC, 8-Leads, Body 5x4mm, Pitch 1.27mm, IPC Medium Density)
footprint TI-D8_L (SOIC, 8-Leads, Body 5x4mm, Pitch 1.27mm, IPC High Density)
footprint TI-D8_M (SOIC, 8-Leads, Body 5x4mm, Pitch 1.27mm, IPC Low Density)
pins: 1 REF (in), 2 IN- (in), 3 IN+ (in), 4 V- (power), 5 SENSE (in), 6 OUT (out), 7 V+ (power), 8 NC

## INA157UAG4
designator U?
High-Speed, Precision Difference Amplifier, -40 to 85 degC, 8-pin SOIC (D8), Green (RoHS & no Sb/Br); Manufacturer: Texas Instruments; PartNumber: INA157UAG4; CMRR(Min)(dB): 80; Gain(V/V): 0.5; Input Offset (+/-)(Max)(uV): 1000; Number of Channels: 1; Slew Rate(Typ)(V/us): 14; Vs(Max)(V): 36; Vs(Min)(V): 8; DatasheetVersion: SBOS105; PackageVersion: 4040047-3/M, 06/2011; PackageReference: D8; PackageDescription: 8-Pin Plastic Small Outline, Body 4.9 x 3.9 mm, Pitch 1.27 mm; Supplier 1: Digi-Key; Supplier Part Number 1: INA157UAG4-ND; Supplier 2: Mouser; Supplier Part Number 2: 595-INA157UAG4; Eco-Plan: Green (RoHS & no Sb/Br); SubFamily: Difference Amplifier; Mounting Technology: Surface Mount; Code_JEDEC: MS-012; ComponentLink1Description: Manufacturer URL; ComponentLink1URL: http://www.ti.com/; ComponentLink2Description: Datasheet; ComponentLink2URL: http://www.ti.com/general/docs/lit/getliterature.tsp?genericPartNumber=INA157&fileType=pdf; ComponentLink3Description: Package Specification; ComponentLink3URL: http://www.ti.com/litv/pdf/msoi002j
footprint TI-D8_N (SOIC, 8-Leads, Body 5x4mm, Pitch 1.27mm, IPC Medium Density)
footprint TI-D8_L (SOIC, 8-Leads, Body 5x4mm, Pitch 1.27mm, IPC High Density)
footprint TI-D8_M (SOIC, 8-Leads, Body 5x4mm, Pitch 1.27mm, IPC Low Density)
pins: 1 REF (in), 2 IN- (in), 3 IN+ (in), 4 V- (power), 5 SENSE (in), 6 OUT (out), 7 V+ (power), 8 NC

## INA157UG4
designator U?
High-Speed, Precision Difference Amplifier, -40 to 85 degC, 8-pin SOIC (D8), Green (RoHS & no Sb/Br); Manufacturer: Texas Instruments; PartNumber: INA157UG4; CMRR(Min)(dB): 86; Gain(V/V): 0.5; Input Offset (+/-)(Max)(uV): 500; Number of Channels: 1; Slew Rate(Typ)(V/us): 14; Vs(Max)(V): 36; Vs(Min)(V): 8; DatasheetVersion: SBOS105; PackageVersion: 4040047-3/M, 06/2011; PackageReference: D8; PackageDescription: 8-Pin Plastic Small Outline, Body 4.9 x 3.9 mm, Pitch 1.27 mm; Supplier 1: Digi-Key; Supplier Part Number 1: INA157UG4-ND; Supplier 2: Mouser; Supplier Part Number 2: 595-INA157UG4; Eco-Plan: Green (RoHS & no Sb/Br); SubFamily: Difference Amplifier; Mounting Technology: Surface Mount; Code_JEDEC: MS-012; ComponentLink1Description: Manufacturer URL; ComponentLink1URL: http://www.ti.com/; ComponentLink2Description: Datasheet; ComponentLink2URL: http://www.ti.com/general/docs/lit/getliterature.tsp?genericPartNumber=INA157&fileType=pdf; ComponentLink3Description: Package Specification; ComponentLink3URL: http://www.ti.com/litv/pdf/msoi002j
footprint TI-D8_N (SOIC, 8-Leads, Body 5x4mm, Pitch 1.27mm, IPC Medium Density)
footprint TI-D8_L (SOIC, 8-Leads, Body 5x4mm, Pitch 1.27mm, IPC High Density)
footprint TI-D8_M (SOIC, 8-Leads, Body 5x4mm, Pitch 1.27mm, IPC Low Density)
pins: 1 REF (in), 2 IN- (in), 3 IN+ (in), 4 V- (power), 5 SENSE (in), 6 OUT (out), 7 V+ (power), 8 NC

## INA159AIDGKR
designator U?
High-Speed, Precision Gain of 0.2 Level Translation Difference Amplifier, -40 to 125 degC, 8-pin SOP (DGK8), Green (RoHS & no Sb/Br); Manufacturer: Texas Instruments; PartNumber: INA159AIDGKR; CMRR(Min)(dB): 80; Gain(V/V): 0.2; Input Offset (+/-)(Max)(uV): 500; Slew Rate(Typ)(V/us): 15; Vs(Max)(V): 5.5; Vs(Min)(V): 1.8; DatasheetVersion: SBOS333B; PackageVersion: 4073329/E, 05/2006; PackageReference: DGK8; PackageDescription: 8-Pin Thin Small Outline, Body 3 x 3 mm, Pitch 0.65 mm; Supplier 1: Digi-Key; Supplier Part Number 1: INA159AIDGKR-ND; Supplier 2: Newark; Supplier Part Number 2: 63K5526; Supplier 3: Mouser; Supplier Part Number 3: 595-INA159AIDGKR; Eco-Plan: Green (RoHS & no Sb/Br); SubFamily: Difference Amplifier; Mounting Technology: Surface Mount; Code_JEDEC: MO-187; ComponentLink1Description: Manufacturer URL; ComponentLink1URL: http://www.ti.com/; ComponentLink2Description: Datasheet; ComponentLink2URL: http://www.ti.com/general/docs/lit/getliterature.tsp?genericPartNumber=INA159&fileType=pdf; ComponentLink3Description: Package Specification; ComponentLink3URL: http://www.ti.com/litv/pdf/mpds028d
footprint TI-DGK8_N (SOP, 8-Leads, Body 3.1x3.1mm, Pitch 0.65mm, IPC Medium Density)
footprint TI-DGK8_L (SOP, 8-Leads, Body 3.1x3.1mm, Pitch 0.65mm, IPC High Density)
footprint TI-DGK8_M (SOP, 8-Leads, Body 3.1x3.1mm, Pitch 0.65mm, IPC Low Density)
pins: 1 REF 1 (in), 2 IN- (in), 3 IN+ (in), 4 V- (power), 5 SENSE (in), 6 OUT (out), 7 V+ (power), 8 REF 2 (in)

## INA159AIDGKRG4
designator U?
High-Speed, Precision Gain of 0.2 Level Translation Difference Amplifier, -40 to 125 degC, 8-pin SOP (DGK8), Green (RoHS & no Sb/Br); Manufacturer: Texas Instruments; PartNumber: INA159AIDGKRG4; CMRR(Min)(dB): 80; Gain(V/V): 0.2; Input Offset (+/-)(Max)(uV): 500; Slew Rate(Typ)(V/us): 15; Vs(Max)(V): 5.5; Vs(Min)(V): 1.8; DatasheetVersion: SBOS333B; PackageVersion: 4073329/E, 05/2006; PackageReference: DGK8; PackageDescription: 8-Pin Thin Small Outline, Body 3 x 3 mm, Pitch 0.65 mm; Supplier 1: Digi-Key; Supplier Part Number 1: INA159AIDGKRG4-ND; Supplier 2: Mouser; Supplier Part Number 2: 595-INA159AIDGKRG4; Eco-Plan: Green (RoHS & no Sb/Br); SubFamily: Difference Amplifier; Mounting Technology: Surface Mount; Code_JEDEC: MO-187; ComponentLink1Description: Manufacturer URL; ComponentLink1URL: http://www.ti.com/; ComponentLink2Description: Datasheet; ComponentLink2URL: http://www.ti.com/general/docs/lit/getliterature.tsp?genericPartNumber=INA159&fileType=pdf; ComponentLink3Description: Package Specification; ComponentLink3URL: http://www.ti.com/litv/pdf/mpds028d
footprint TI-DGK8_N (SOP, 8-Leads, Body 3.1x3.1mm, Pitch 0.65mm, IPC Medium Density)
footprint TI-DGK8_L (SOP, 8-Leads, Body 3.1x3.1mm, Pitch 0.65mm, IPC High Density)
footprint TI-DGK8_M (SOP, 8-Leads, Body 3.1x3.1mm, Pitch 0.65mm, IPC Low Density)
pins: 1 REF 1 (in), 2 IN- (in), 3 IN+ (in), 4 V- (power), 5 SENSE (in), 6 OUT (out), 7 V+ (power), 8 REF 2 (in)

## INA159AIDGKT
designator U?
High-Speed, Precision Gain of 0.2 Level Translation Difference Amplifier, -40 to 125 degC, 8-pin SOP (DGK8), Green (RoHS & no Sb/Br); Manufacturer: Texas Instruments; PartNumber: INA159AIDGKT; CMRR(Min)(dB): 80; Gain(V/V): 0.2; Input Offset (+/-)(Max)(uV): 500; Slew Rate(Typ)(V/us): 15; Vs(Max)(V): 5.5; Vs(Min)(V): 1.8; DatasheetVersion: SBOS333B; PackageVersion: 4073329/E, 05/2006; PackageReference: DGK8; PackageDescription: 8-Pin Thin Small Outline, Body 3 x 3 mm, Pitch 0.65 mm; Supplier 1: Digi-Key; Supplier Part Number 1: 296-18688-2-ND; Supplier 2: Digi-Key; Supplier Part Number 2: 296-18688-1-ND; Supplier 3: Digi-Key; Supplier Part Number 3: 296-18688-6-ND; Supplier 4: Newark; Supplier Part Number 4: 63K5527; Supplier 5: Mouser; Supplier Part Number 5: 595-INA159AIDGKT; Eco-Plan: Green (RoHS & no Sb/Br); SubFamily: Difference Amplifier; Mounting Technology: Surface Mount; Code_JEDEC: MO-187; ComponentLink1Description: Manufacturer URL; ComponentLink1URL: http://www.ti.com/; ComponentLink2Description: Datasheet; ComponentLink2URL: http://www.ti.com/general/docs/lit/getliterature.tsp?genericPartNumber=INA159&fileType=pdf; ComponentLink3Description: Package Specification; ComponentLink3URL: http://www.ti.com/litv/pdf/mpds028d
footprint TI-DGK8_N (SOP, 8-Leads, Body 3.1x3.1mm, Pitch 0.65mm, IPC Medium Density)
footprint TI-DGK8_L (SOP, 8-Leads, Body 3.1x3.1mm, Pitch 0.65mm, IPC High Density)
footprint TI-DGK8_M (SOP, 8-Leads, Body 3.1x3.1mm, Pitch 0.65mm, IPC Low Density)
pins: 1 REF 1 (in), 2 IN- (in), 3 IN+ (in), 4 V- (power), 5 SENSE (in), 6 OUT (out), 7 V+ (power), 8 REF 2 (in)

## INA159AIDGKTG4
designator U?
High-Speed, Precision Gain of 0.2 Level Translation Difference Amplifier, -40 to 125 degC, 8-pin SOP (DGK8), Green (RoHS & no Sb/Br); Manufacturer: Texas Instruments; PartNumber: INA159AIDGKTG4; CMRR(Min)(dB): 80; Gain(V/V): 0.2; Input Offset (+/-)(Max)(uV): 500; Slew Rate(Typ)(V/us): 15; Vs(Max)(V): 5.5; Vs(Min)(V): 1.8; DatasheetVersion: SBOS333B; PackageVersion: 4073329/E, 05/2006; PackageReference: DGK8; PackageDescription: 8-Pin Thin Small Outline, Body 3 x 3 mm, Pitch 0.65 mm; Supplier 1: Digi-Key; Supplier Part Number 1: INA159AIDGKTG4-ND; Supplier 2: Newark; Supplier Part Number 2: 66K2423; Supplier 3: Mouser; Supplier Part Number 3: 595-INA159AIDGKTG4; Eco-Plan: Green (RoHS & no Sb/Br); SubFamily: Difference Amplifier; Mounting Technology: Surface Mount; Code_JEDEC: MO-187; ComponentLink1Description: Manufacturer URL; ComponentLink1URL: http://www.ti.com/; ComponentLink2Description: Datasheet; ComponentLink2URL: http://www.ti.com/general/docs/lit/getliterature.tsp?genericPartNumber=INA159&fileType=pdf; ComponentLink3Description: Package Specification; ComponentLink3URL: http://www.ti.com/litv/pdf/mpds028d
footprint TI-DGK8_N (SOP, 8-Leads, Body 3.1x3.1mm, Pitch 0.65mm, IPC Medium Density)
footprint TI-DGK8_L (SOP, 8-Leads, Body 3.1x3.1mm, Pitch 0.65mm, IPC High Density)
footprint TI-DGK8_M (SOP, 8-Leads, Body 3.1x3.1mm, Pitch 0.65mm, IPC Low Density)
pins: 1 REF 1 (in), 2 IN- (in), 3 IN+ (in), 4 V- (power), 5 SENSE (in), 6 OUT (out), 7 V+ (power), 8 REF 2 (in)

## INA159AMDGKTEP
designator U?
Enhanced Product Precision, Gain of 0.2 Level Translation Difference Amplifier, -55 to 125 degC, 8-pin SOP (DGK8), Green (RoHS & no Sb/Br); Manufacturer: Texas Instruments; PartNumber: INA159AMDGKTEP; CMRR(Min)(dB): 80; Gain(V/V): 0.2; Input Offset (+/-)(Max)(uV): 500; Slew Rate(Typ)(V/us): 15; Vs(Max)(V): 5.5; Vs(Min)(V): 1.8; DatasheetVersion: SBOS443; PackageVersion: 4073329/E, 05/2006; PackageReference: DGK8; PackageDescription: 8-Pin Thin Small Outline, Body 3 x 3 mm, Pitch 0.65 mm; Supplier 1: Digi-Key; Supplier Part Number 1: 296-24001-2-ND; Supplier 2: Digi-Key; Supplier Part Number 2: 296-24001-1-ND; Supplier 3: Digi-Key; Supplier Part Number 3: 296-24001-6-ND; Supplier 4: Newark; Supplier Part Number 4: 45P7634; Supplier 5: Mouser; Supplier Part Number 5: 595-INA159AMDGKTEP; Eco-Plan: Green (RoHS & no Sb/Br); SubFamily: Difference Amplifier; Mounting Technology: Surface Mount; Code_JEDEC: MO-187; ComponentLink1Description: Manufacturer URL; ComponentLink1URL: http://www.ti.com/; ComponentLink2Description: Datasheet; ComponentLink2URL: http://www.ti.com/general/docs/lit/getliterature.tsp?genericPartNumber=INA159-EP&fileType=pdf; ComponentLink3Description: Package Specification; ComponentLink3URL: http://www.ti.com/litv/pdf/mpds028d
footprint TI-DGK8_N (SOP, 8-Leads, Body 3.1x3.1mm, Pitch 0.65mm, IPC Medium Density)
footprint TI-DGK8_L (SOP, 8-Leads, Body 3.1x3.1mm, Pitch 0.65mm, IPC High Density)
footprint TI-DGK8_M (SOP, 8-Leads, Body 3.1x3.1mm, Pitch 0.65mm, IPC Low Density)
pins: 1 REF 1 (in), 2 IN- (in), 3 IN+ (in), 4 V- (power), 5 SENSE (in), 6 OUT (out), 7 V+ (power), 8 REF 2 (in)

## INA330AIDGSR
designator U?
Thermistor Signal Amplifier for Temperature Control, -40 to 85 degC, 10-pin SOP (DGS10), Green (RoHS & no Sb/Br); Manufacturer: Texas Instruments; PartNumber: INA330AIDGSR; Number of Channels: 1; Single Supply: TRUE; SubFamily: Difference Amplifier; Vs(Max)(V): 5.5; Vs(Min)(V): 2.7; DatasheetVersion: SBOS260; PackageVersion: 4073272/C, 02/2004; PackageReference: DGS10; PackageDescription: 10-Pin Plastic Small Outline, Body 3 x 3 mm, Pitch 0.5 mm; Supplier 1: Digi-Key; Supplier Part Number 1: INA330AIDGSR-ND; Supplier 2: Mouser; Supplier Part Number 2: 595-INA330AIDGSR; Eco-Plan: Green (RoHS & no Sb/Br); Mounting Technology: Surface Mount; Code_JEDEC: MO-153; ComponentLink1Description: Manufacturer URL; ComponentLink1URL: http://www.ti.com/; ComponentLink2Description: Datasheet; ComponentLink2URL: http://www.ti.com/general/docs/lit/getliterature.tsp?genericPartNumber=INA330&fileType=pdf; ComponentLink3Description: Package Specification; ComponentLink3URL: http://www.ti.com/lit/ml/mpds035b/mpds035b.pdf
footprint TI-DGS10_N (SOP, 10-Leads, Body 3.1x3.1mm, Pitch 0.5mm, IPC Medium Density)
footprint TI-DGS10_L (SOP, 10-Leads, Body 3.1x3.1mm, Pitch 0.5mm, IPC High Density)
footprint TI-DGS10_M (SOP, 10-Leads, Body 3.1x3.1mm, Pitch 0.5mm, IPC Low Density)
pins: 1 I2 (RSET) (out), 2 V2 (in), 3 V1 (in), 4 GND (power), 5 (CONNECT TO V+) (in), 6 ENABLE (in), 7 IO (RG) (io), 8 VO (out), 9 V+ (power), 10 I1 (RTHERM) (out)

## INA330AIDGSRG4
designator U?
Thermistor Signal Amplifier for Temperature Control, -40 to 85 degC, 10-pin SOP (DGS10), Green (RoHS & no Sb/Br); Manufacturer: Texas Instruments; PartNumber: INA330AIDGSRG4; Number of Channels: 1; Single Supply: TRUE; SubFamily: Difference Amplifier; Vs(Max)(V): 5.5; Vs(Min)(V): 2.7; DatasheetVersion: SBOS260; PackageVersion: 4073272/C, 02/2004; PackageReference: DGS10; PackageDescription: 10-Pin Plastic Small Outline, Body 3 x 3 mm, Pitch 0.5 mm; Supplier 1: Digi-Key; Supplier Part Number 1: INA330AIDGSRG4-ND; Supplier 2: Mouser; Supplier Part Number 2: 595-INA330AIDGSRG4; Eco-Plan: Green (RoHS & no Sb/Br); Mounting Technology: Surface Mount; Code_JEDEC: MO-153; ComponentLink1Description: Manufacturer URL; ComponentLink1URL: http://www.ti.com/; ComponentLink2Description: Datasheet; ComponentLink2URL: http://www.ti.com/general/docs/lit/getliterature.tsp?genericPartNumber=INA330&fileType=pdf; ComponentLink3Description: Package Specification; ComponentLink3URL: http://www.ti.com/lit/ml/mpds035b/mpds035b.pdf
footprint TI-DGS10_N (SOP, 10-Leads, Body 3.1x3.1mm, Pitch 0.5mm, IPC Medium Density)
footprint TI-DGS10_L (SOP, 10-Leads, Body 3.1x3.1mm, Pitch 0.5mm, IPC High Density)
footprint TI-DGS10_M (SOP, 10-Leads, Body 3.1x3.1mm, Pitch 0.5mm, IPC Low Density)
pins: 1 I2 (RSET) (out), 2 V2 (in), 3 V1 (in), 4 GND (power), 5 (CONNECT TO V+) (in), 6 ENABLE (in), 7 IO (RG) (io), 8 VO (out), 9 V+ (power), 10 I1 (RTHERM) (out)

## INA330AIDGST
designator U?
Thermistor Signal Amplifier for Temperature Control, -40 to 85 degC, 10-pin SOP (DGS10), Green (RoHS & no Sb/Br); Manufacturer: Texas Instruments; PartNumber: INA330AIDGST; Number of Channels: 1; Single Supply: TRUE; SubFamily: Difference Amplifier; Vs(Max)(V): 5.5; Vs(Min)(V): 2.7; DatasheetVersion: SBOS260; PackageVersion: 4073272/C, 02/2004; PackageReference: DGS10; PackageDescription: 10-Pin Plastic Small Outline, Body 3 x 3 mm, Pitch 0.5 mm; Supplier 1: Digi-Key; Supplier Part Number 1: 296-13861-2-ND; Supplier 2: Digi-Key; Supplier Part Number 2: 296-13861-1-ND; Supplier 3: Digi-Key; Supplier Part Number 3: 296-13861-6-ND; Supplier 4: Newark; Supplier Part Number 4: 02H5246; Supplier 5: Mouser; Supplier Part Number 5: 595-INA330AIDGST; Eco-Plan: Green (RoHS & no Sb/Br); Mounting Technology: Surface Mount; Code_JEDEC: MO-153; ComponentLink1Description: Manufacturer URL; ComponentLink1URL: http://www.ti.com/; ComponentLink2Description: Datasheet; ComponentLink2URL: http://www.ti.com/general/docs/lit/getliterature.tsp?genericPartNumber=INA330&fileType=pdf; ComponentLink3Description: Package Specification; ComponentLink3URL: http://www.ti.com/lit/ml/mpds035b/mpds035b.pdf
footprint TI-DGS10_N (SOP, 10-Leads, Body 3.1x3.1mm, Pitch 0.5mm, IPC Medium Density)
footprint TI-DGS10_L (SOP, 10-Leads, Body 3.1x3.1mm, Pitch 0.5mm, IPC High Density)
footprint TI-DGS10_M (SOP, 10-Leads, Body 3.1x3.1mm, Pitch 0.5mm, IPC Low Density)
pins: 1 I2 (RSET) (out), 2 V2 (in), 3 V1 (in), 4 GND (power), 5 (CONNECT TO V+) (in), 6 ENABLE (in), 7 IO (RG) (io), 8 VO (out), 9 V+ (power), 10 I1 (RTHERM) (out)

## INA330AIDGSTG4
designator U?
Thermistor Signal Amplifier for Temperature Control, -40 to 85 degC, 10-pin SOP (DGS10), Green (RoHS & no Sb/Br); Manufacturer: Texas Instruments; PartNumber: INA330AIDGSTG4; Number of Channels: 1; Single Supply: TRUE; SubFamily: Difference Amplifier; Vs(Max)(V): 5.5; Vs(Min)(V): 2.7; DatasheetVersion: SBOS260; PackageVersion: 4073272/C, 02/2004; PackageReference: DGS10; PackageDescription: 10-Pin Plastic Small Outline, Body 3 x 3 mm, Pitch 0.5 mm; Supplier 1: Digi-Key; Supplier Part Number 1: INA330AIDGSTG4-ND; Supplier 2: Newark; Supplier Part Number 2: 02M3415; Supplier 3: Mouser; Supplier Part Number 3: 595-INA330AIDGSTG4; Eco-Plan: Green (RoHS & no Sb/Br); Mounting Technology: Surface Mount; Code_JEDEC: MO-153; ComponentLink1Description: Manufacturer URL; ComponentLink1URL: http://www.ti.com/; ComponentLink2Description: Datasheet; ComponentLink2URL: http://www.ti.com/general/docs/lit/getliterature.tsp?genericPartNumber=INA330&fileType=pdf; ComponentLink3Description: Package Specification; ComponentLink3URL: http://www.ti.com/lit/ml/mpds035b/mpds035b.pdf
footprint TI-DGS10_N (SOP, 10-Leads, Body 3.1x3.1mm, Pitch 0.5mm, IPC Medium Density)
footprint TI-DGS10_L (SOP, 10-Leads, Body 3.1x3.1mm, Pitch 0.5mm, IPC High Density)
footprint TI-DGS10_M (SOP, 10-Leads, Body 3.1x3.1mm, Pitch 0.5mm, IPC Low Density)
pins: 1 I2 (RSET) (out), 2 V2 (in), 3 V1 (in), 4 GND (power), 5 (CONNECT TO V+) (in), 6 ENABLE (in), 7 IO (RG) (io), 8 VO (out), 9 V+ (power), 10 I1 (RTHERM) (out)

## INA2128U
designator U?
Dual, Low Power Instrumentation Amplifier, -40 to 85 degC, 16-pin SOIC (DW16), Green (RoHS & no Sb/Br); Manufacturer: Texas Instruments; PartNumber: INA2128U; CMRR(Min)(dB): 120; Dual Supply: TRUE; Gain(V/V): 1 to 10000; Input Offset (+/-)(Max)(uV): 50; Number of Channels: 2; Slew Rate(Typ)(V/us): 4; SubFamily: Difference Amplifier; Vs(Max)(V): 36; Vs(Min)(V): 4.5; DatasheetVersion: SBOS035A; PackageVersion: 4040000-2/G, 01/2011; PackageReference: DW16; PackageDescription: 16-Pin Plastic Small Outline, Body 10.30 x 7.50 mm, Pitch 1.27 mm; Supplier 1: Digi-Key; Supplier Part Number 1: INA2128U-ND; Supplier 2: Farnell; Supplier Part Number 2: 1212421; Supplier 3: Newark; Supplier Part Number 3: 28C7388; Supplier 4: Mouser; Supplier Part Number 4: 595-INA2128U; Eco-Plan: Green (RoHS & no Sb/Br); Mounting Technology: Surface Mount; Code_JEDEC: MS-013; ComponentLink1Description: Manufacturer URL; ComponentLink1URL: http://www.ti.com/; ComponentLink2Description: Datasheet; ComponentLink2URL: http://www.ti.com/general/docs/lit/getliterature.tsp?genericPartNumber=INA2128&fileType=pdf; ComponentLink3Description: Package Specification; ComponentLink3URL: http://www.ti.com/litv/pdf/msoi003g
footprint TI-DW16_N (SOIC, 16-Leads, Body 10.5x7.6mm, Pitch 1.27mm, IPC Medium Density)
footprint TI-DW16_L (SOIC, 16-Leads, Body 10.5x7.6mm, Pitch 1.27mm, IPC High Density)
footprint TI-DW16_M (SOIC, 16-Leads, Body 10.5x7.6mm, Pitch 1.27mm, IPC Low Density)
pins on every part: 8 V- (power), 9 V+ (power)
part A pins: 1 VINA- (in), 2 VINA+ (in), 3 RGA (in), 4 RGA (in), 5 REFA (in), 6 VOA (out), 7 SENSEA (in)
part B pins: 10 SENSEB (in), 11 VOB (out), 12 REFB (in), 13 RGB (in), 14 RGB (in), 15 VINB+ (in), 16 VINB- (in)